# Altium schematic symbol library RT6154AGQW.SchLib: 1 symbol
Pins are listed as number, name and electrical type; pins without a type are passive.

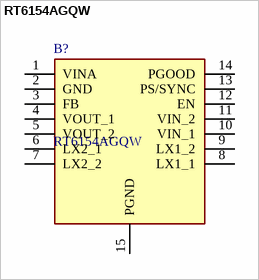
[diagram p0: symbol RT6154AGQW]

## RT6154AGQW
designator B?
RICHTEK - RT6154AGQW - DC/DC CONV, BUCK-BOOST, 2.4MHZ, WDFN-14; Geometry.Height: 0.8mm; Mouser Part Number: 835-RT6154AGQW; Mouser Price/Stock: https://www.mouser.co.uk/ProductDetail/Richtek/RT6154AGQW?qs=amGC7iS6iy9E3yYxjjg2sA%3D%3D; Manufacturer_Name: RICHTEK; Manufacturer_Part_Number: RT6154AGQW; Datasheet Link: https://www.richtek.com/assets/product_file/RT6154A=RT6154B/DS6154AB-01.pdf
footprint SON50P300X400X80-15N-D
pins: 1 VINA, 2 GND, 3 FB, 4 VOUT_1, 5 VOUT_2, 6 LX2_1, 7 LX2_2, 8 LX1_1, 9 LX1_2, 10 VIN_1, 11 VIN_2, 12 EN, 13 PS/SYNC, 14 PGOOD, 15 PGND